# Altium footprint library PCB - RESISTOR - CHIP - RTD 0603_1608.PcbLib: 1 footprints
Each footprint in its own frame and in the unit in brackets; x right, y up, seen from the top. Pads: shape width x height; smd on the part's side, far side on the other; paste and mask are expansions set on the pad; w line width, h text height; cw(c..) or ccw(c..) is an arc to the next point about the centre after c.
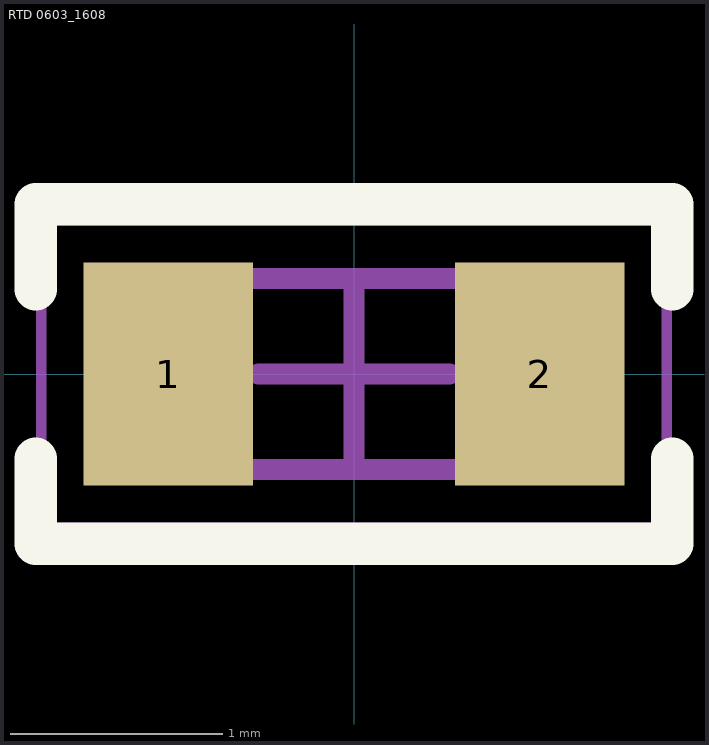
[diagram p0: the footprint, top view; thin cyan lines are the x and y axes]

## RTD 0603_1608 [mm] "1 kOhms RTD Platinum ±0.3% ±3850ppm/°C -50°C ~ 150°C, 2-Leads, Body 1.70x0.90mm, IPC Medium Density"
height 0.45
pads (2):
  rect 0.8x1.05 smd: 1(-0.875,0) 2(0.875,0)
Top Overlay:
  lines w0.2: -1.5,-0.4 -1.5,-0.8 1.5,-0.8 1.5,-0.4 ; -1.5,0.4 -1.5,0.8 1.5,0.8 1.5,0.4
Mechanical 13:
  lines w0.1: -0.85,-0.45 0.85,-0.45 0.85,0.45 -0.85,0.45 -0.85,-0.45
Mechanical 15:
  lines w0.05: -1.475,-0.725 1.475,-0.725 1.475,0.725 -1.475,0.725 -1.475,-0.725
  lines w0.1: -0.45,0 0.45,0 ; 0,-0.45 0,0.45
3D body "RTD 0603_1608.step": height 0.45, standoff 0, extent -0.85,-0.45 0.85,0.45